# EAGLE library part EFR32MG21A020F1024IM32 (library private)
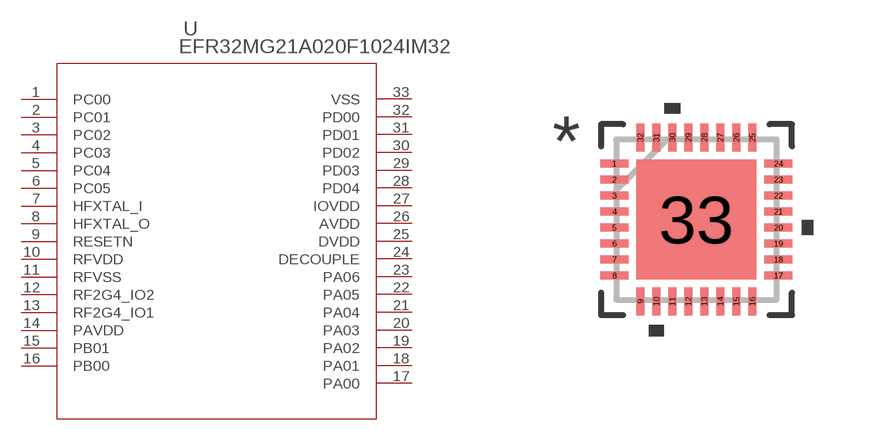
[diagram p0: symbol with the pads of QFN32_4X4_SIL; footprint QFN32_4X4_SIL]

Designator prefix U

## EFR32MG21A020F1024IM32 (BUILT_BY: EMA_Jessica; COPYRIGHT: Copyright (C) 2018 Accelerated Designs. All rights reserved; MANUFACTURER_PART_NUMBER: EFR32MG21A020F1024IM32; SOURCELIBRARY: Silicon_Labs_2019-10-28; VENDOR: Silicon Labs)  [QFN32_4X4_SIL]
1  PC00
2  PC01
3  PC02
4  PC03
5  PC04
6  PC05
7  HFXTAL_I  in
8  HFXTAL_O  out
9  RESETN  in
10  RFVDD  pwr
11  RFVSS  pwr
12  RF2G4_IO2
13  RF2G4_IO1
14  PAVDD  pwr
15  PB01
16  PB00
17  PA00
18  PA01
19  PA02
20  PA03
21  PA04
22  PA05
23  PA06
24  DECOUPLE  out
25  DVDD  pwr
26  AVDD  pwr
27  IOVDD  pwr
28  PD04
29  PD03
30  PD02
31  PD01
32  PD00
33  VSS  pwr

## Footprint QFN32_4X4_SIL (pad centres in mm)
smd 0.7 x 0.2: 1 -2.05,1.4; 2 -2.05,1; 3 -2.05,0.6; 4 -2.05,0.2; 5 -2.05,-0.2; 6 -2.05,-0.6; 7 -2.05,-1; 8 -2.05,-1.4; 17 2.05,-1.4; 18 2.05,-1; 19 2.05,-0.6; 20 2.05,-0.2; 21 2.05,0.2; 22 2.05,0.6; 23 2.05,1; 24 2.05,1.4
smd 0.2 x 0.7: 9 -1.4,-2.05; 10 -1,-2.05; 11 -0.6,-2.05; 12 -0.2,-2.05; 13 0.2,-2.05; 14 0.6,-2.05; 15 1,-2.05; 16 1.4,-2.05; 25 1.4,2.05; 26 1,2.05; 27 0.6,2.05; 28 0.2,2.05; 29 -0.2,2.05; 30 -0.6,2.05; 31 -1,2.05; 32 -1.4,2.05
smd 3 x 3: 33 0,0